# Altium footprint library Polarimetro v2.1.PcbLib: 40 footprints (part 3 of 3)
Each footprint in its own frame and in the unit in brackets; x right, y up, seen from the top. Pads: shape width x height; smd on the part's side, far side on the other; paste and mask are expansions set on the pad; w line width, h text height; cw(c..) or ccw(c..) is an arc to the next point about the centre after c.
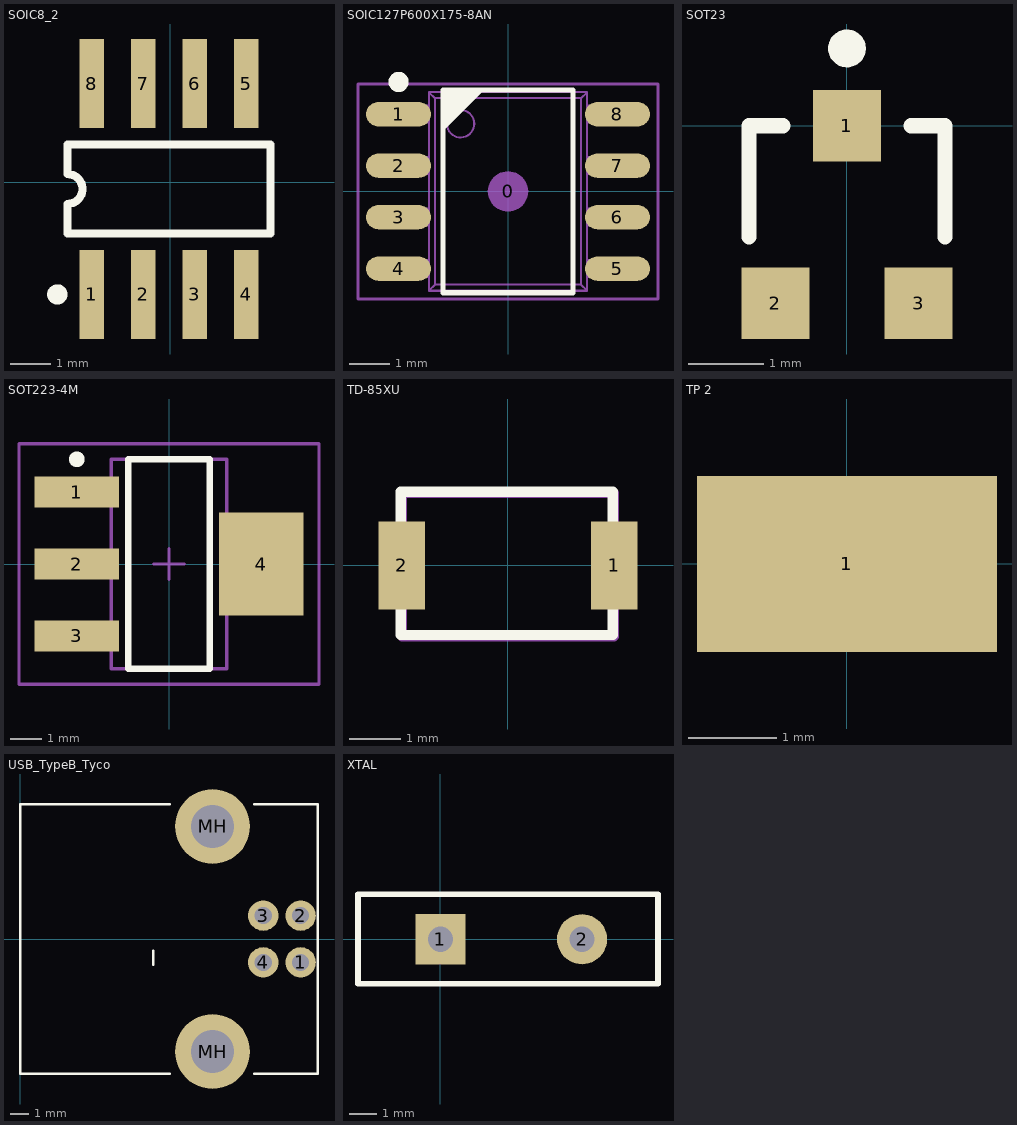
[diagram p2: the footprints below, top view; thin cyan lines are the x and y axes]

## SOIC8_2 [mm]
pads (8):
  rect 0.6x2.2 smd: 1(-1.936,-2.77) 2(-0.666,-2.77) 3(0.604,-2.77) 4(1.874,-2.77) 5(1.874,2.43) 6(0.604,2.43) 7(-0.666,2.43) 8(-1.936,2.43)
Top Overlay:
  circle w0.25: c-2.786,-2.77 r0.125
  lines w0.2: -2.531,-1.27 -2.531,-0.537 ccw(c-2.531,-0.17) -2.531,0.196 -2.531,0.93 2.469,0.93 2.469,-1.27 -2.531,-1.27
3D body "so-8.step": height 1.88, standoff -0.03, extent -2.547,-3.289 2.457,3.05

## SOIC127P600X175-8AN [mm]
pads (9):
  round 1 on Mech15: 0(0,0)
  oval 1.6x0.6 smd: 1(-2.7,1.905) 2(-2.7,0.635) 3(-2.7,-0.635) 4(-2.7,-1.905) 5(2.7,-1.905) 6(2.7,-0.635) 7(2.7,0.635) 8(2.7,1.905)
Top Overlay:
  circle w0.25: c-2.7,2.7 r0.125
  region: -1.6,2.5 -0.6,2.5 -1.6,1.5
  lines w0.127: -1.6,-2.5 1.6,-2.5 1.6,2.5 -1.6,2.5 -1.6,-2.5
Mechanical 13:
  circle w0.05: c-1.17,1.67 r0.338
  lines w0.05: -2.631,-2.115 -2.631,-1.695 ; -2.631,-0.845 -2.631,-0.425 ; -2.631,0.425 -2.631,0.845 ; -2.631,1.695 -2.631,2.115 ; -2.543,-2.115 -2.543,-1.695 ; -2.543,-0.845 -2.543,-0.425 ; -2.543,0.425 -2.543,0.845 ; -2.543,1.695 -2.543,2.115 ; -2.403,-2.115 -2.403,-1.695 ; -2.403,-0.845 -2.403,-0.425 ; -2.403,0.425 -2.403,0.845 ; -2.403,1.695 -2.403,2.115 ; -2.113,-2.115 -2.113,-1.695 ; -2.113,-0.845 -2.113,-0.425 ; -2.113,0.425 -2.113,0.845 ; -2.113,1.695 -2.113,2.115 ; -1.95,-2.115 -3,-2.115 -3,-1.695 -1.95,-1.695 ; -1.95,-0.845 -3,-0.845 -3,-0.425 -1.95,-0.425 ; -1.95,0.425 -3,0.425 -3,0.845 -1.95,0.845 ; -1.95,1.695 -3,1.695 -3,2.115 -1.95,2.115 ; 1.95,-2.115 3,-2.115 3,-1.695 1.95,-1.695 ; 1.95,-0.845 3,-0.845 3,-0.425 1.95,-0.425 ; 1.95,0.425 3,0.425 3,0.845 1.95,0.845 ; 1.95,1.695 3,1.695 3,2.115 1.95,2.115 ; 2.113,-2.115 2.113,-1.695 ; 2.113,-0.845 2.113,-0.425 ; 2.113,0.425 2.113,0.845 ; 2.113,1.695 2.113,2.115 ; 2.403,-2.115 2.403,-1.695 ; 2.403,-0.845 2.403,-0.425 ; 2.403,0.425 2.403,0.845 ; 2.403,1.695 2.403,2.115 ; 2.543,-2.115 2.543,-1.695 ; 2.543,-0.845 2.543,-0.425 ; 2.543,0.425 2.543,0.845 ; 2.543,1.695 2.543,2.115 ; 2.631,-2.115 2.631,-1.695 ; 2.631,-0.845 2.631,-0.425 ; 2.631,0.425 2.631,0.845 ; 2.631,1.695 2.631,2.115 ; -1.95,-2.45 -1.801,-2.301 ; -1.95,-2.45 -1.95,2.45 ; -1.95,-2.45 1.95,-2.45 ; -1.95,2.45 1.95,2.45 ; -1.95,2.45 -1.801,2.301 ; -1.801,-2.301 -1.801,2.301 ; -1.801,-2.301 1.801,-2.301 ; -1.801,2.301 1.801,2.301 ; 1.801,-2.301 1.801,2.301 ; 1.801,-2.301 1.95,-2.45 ; 1.801,2.301 1.95,2.45 ; 1.95,-2.45 1.95,2.45
Mechanical 15:
  lines w0.076: -3.7,-2.65 3.7,-2.65 3.7,2.65 -3.7,2.65 -3.7,-2.65
3D body "SOIC-8.STEP": height 1.75, standoff 0, extent -3,-2.45 3,2.45

## SOT23 [mm]
pads (3):
  rect 0.9x0.95 smd: 1(0,0) 2(-0.95,-2.35) 3(0.95,-2.35)
Top Overlay:
  circle w0.25: c0,1.025 r0.125
  lines w0.2: -1.3,-1.475 -1.3,0 -0.85,0 ; 0.85,0 1.3,0 1.3,-1.475
3D body "sot23-3.step": height 1, standoff -0.02, extent -1.458,-2.356 1.462,0.12

## SOT223-4M [mm]
pads (4):
  rect 2.7x1 smd: 1(-2.95,2.3) 2(-2.95,0) 3(-2.95,-2.3)
  rect 2.7x3.3 smd: 4(2.95,0)
Top Overlay:
  circle w0.25: c-2.95,3.35 r0.125
  lines w0.2: -1.3,-3.35 1.3,-3.35 1.3,3.35 -1.3,3.35 -1.3,-3.35
Mechanical 13:
  lines w0.1: -1.85,-3.35 1.85,-3.35 1.85,3.35 -1.85,3.35 -1.85,-3.35
Mechanical 15:
  lines w0.1: -0.5,0 0.5,0 ; 0,-0.5 0,0.5 ; -4.8,-3.85 4.8,-3.85 4.8,3.85 -4.8,3.85 -4.8,-3.85
3D body "SOT-223-1.step": height 1.64, standoff -0.01, extent -3.348,-3.251 3.652,3.249

## TD-85XU [mm]
pads (2):
  rect 0.9x1.7 smd: 1(2.05,0) 2(-2.05,0)
Top Overlay:
  lines w0.2: -2.075,-1.345 2.025,-1.345 2.025,1.425 -2.075,1.425 -2.075,-1.345
Mechanical 16:
  lines w0.2: -2.05,-1.37 -2.05,1.4 2.05,1.4 2.05,-1.37 -2.05,-1.37
Mechanical 29:
  text "'.Designator'" at -1.774,-0.156 h0.5
3D body "User Library-User Library-Micro Pushbutton.step": height 1.63, standoff 0, extent -2.023,-1.172 1.977,1.196

## TP 2 [mm]
pads (1):
  rect 3.4x2 smd: 1(0,0)
3D body "Test point Keystone smt 5015.step": height 2, standoff 0, extent -1.426,-0.568 1.477,0.432

## USB_TypeB_Tyco [mm]
pads (6):
  round 1.626 hole 0.914: 1(14.99,-1.25) 2(14.99,1.25) 3(12.99,1.25) 4(12.99,-1.25)
  round 4 hole 2.3: MH(10.28,-6.02) MH(10.28,6.02)
Top Overlay:
  lines w0.127: 7.1,-1.375 7.1,-0.625 ; 8,-7.2 0,-7.2 0,7.2 8,7.2 ; 12.5,-7.2 15.9,-7.2 15.9,7.2 12.5,7.2
3D body "c-0292304-01-b-3d.stp": height 11.5, standoff -3.93, extent 0,-7.194 15.7,7.194

## XTAL [mm]
pads (2):
  rect 1.8x1.8 hole 0.9: 1(0,0)
  round 1.8 hole 0.9: 2(5.08,0)
Top Overlay:
  lines w0.2: -2.958,-1.598 -2.958,1.613 7.805,1.613 7.805,-1.598 -2.958,-1.598
3D body "XTAL2.step": height 2.09, standoff -3.54, extent -2.867,-1.519 7.801,1.529